# EAGLE library part REG_LTC3330 (library akita)
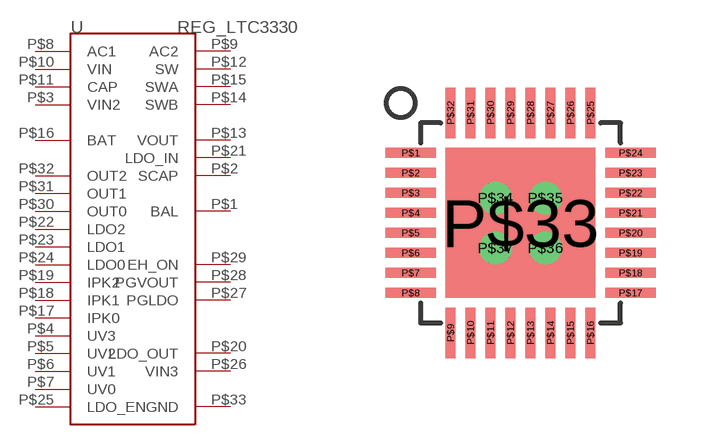
[diagram p77: symbol with the pads of QFN32E; footprint QFN32E]

Designator prefix -

## REG_LTC3330  [QFN32E]
P$1  BAL
P$2  SCAP
P$3  VIN2
P$4  UV3
P$5  UV2
P$6  UV1
P$7  UV0
P$8  AC1
P$9  AC2
P$10  VIN
P$11  CAP
P$12  SW
P$13  VOUT
P$14  SWB
P$15  SWA
P$16  BAT
P$17  IPK0
P$18  IPK1
P$19  IPK2
P$20  LDO_OUT
P$21  LDO_IN
P$22  LDO2
P$23  LDO1
P$24  LDO0
P$25  LDO_EN
P$26  VIN3
P$27  PGLDO
P$28  PGVOUT
P$29  EH_ON
P$30  OUT0
P$31  OUT1
P$32  OUT2
P$33  GND

## Footprint QFN32E (pad centres in mm)
QFN32 w/ Exposed Pad
smd 1.27 x 0.25: P$1 -2.75,1.75; P$2 -2.75,1.25; P$3 -2.75,0.75; P$4 -2.75,0.25; P$5 -2.75,-0.25; P$6 -2.75,-0.75; P$7 -2.75,-1.25; P$8 -2.75,-1.75; P$17 2.75,-1.75; P$18 2.75,-1.25; P$19 2.75,-0.75; P$20 2.75,-0.25; P$21 2.75,0.25; P$22 2.75,0.75; P$23 2.75,1.25; P$24 2.75,1.75
smd 0.25 x 1.27: P$9 -1.75,-2.75; P$10 -1.25,-2.75; P$11 -0.75,-2.75; P$12 -0.25,-2.75; P$13 0.25,-2.75; P$14 0.75,-2.75; P$15 1.25,-2.75; P$16 1.75,-2.75; P$25 1.75,2.75; P$26 1.25,2.75; P$27 0.75,2.75; P$28 0.25,2.75; P$29 -0.25,2.75; P$30 -0.75,2.75; P$31 -1.25,2.75; P$32 -1.75,2.75
smd 3.75 x 3.75: P$33 0,0
drill 0.3 pad 0.6: P$34 -0.625,0.625; P$35 0.625,0.625; P$36 0.625,-0.625; P$37 -0.625,-0.625